# EAGLE library part Z80SIO (library zilog)
Z80 FAMILY DEVICE
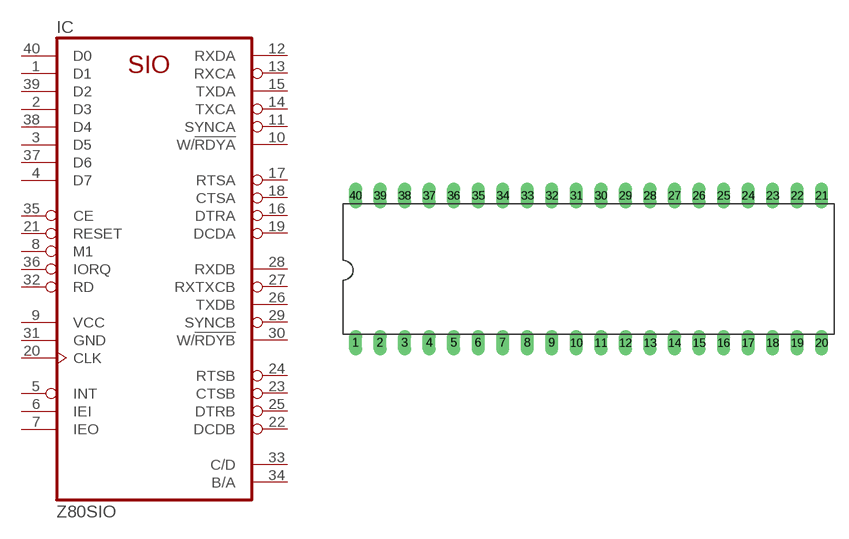
[diagram p3: symbol with the pads of DIL40; footprint DIL40]

Designator prefix IC

## Z80SIO  [DIL40]
1  D1
2  D3
3  D5
4  D7
5  INT  out
6  IEI  in
7  IEO  out
8  M1  in
9  VCC  pwr
10  W/!RDYA  out
11  SYNCA
12  RXDA  in
13  RXCA  in
14  TXCA  in
15  TXDA  in
16  DTRA  out
17  RTSA  out
18  CTSA  in
19  DCDA  in
20  CLK  in
21  RESET  in
22  DCDB  in
23  CTSB  in
24  RTSB  out
25  DTRB  out
26  TXDB  out
27  RXTXCB  in
28  RXDB  in
29  SYNCB
30  W/!RDYB  out
31  GND  pwr
32  RD  in
33  C/D  in
34  B/A  in
35  CE  in
36  IORQ  in
37  D6
38  D4
39  D2
40  D0

## Footprint DIL40 (pad centres in mm)
Dual In Line Package
drill 0.813 long: 1 -24.13,-7.62; 2 -21.59,-7.62; 3 -19.05,-7.62; 4 -16.51,-7.62; 5 -13.97,-7.62; 6 -11.43,-7.62; 7 -8.89,-7.62; 8 -6.35,-7.62; 9 -3.81,-7.62; 10 -1.27,-7.62; 11 1.27,-7.62; 12 3.81,-7.62; 13 6.35,-7.62; 14 8.89,-7.62; 15 11.43,-7.62; 16 13.97,-7.62; 17 16.51,-7.62; 18 19.05,-7.62; 19 21.59,-7.62; 20 24.13,-7.62; 21 24.13,7.62; 22 21.59,7.62; 23 19.05,7.62; 24 16.51,7.62; 25 13.97,7.62; 26 11.43,7.62; 27 8.89,7.62; 28 6.35,7.62; 29 3.81,7.62; 30 1.27,7.62; 31 -1.27,7.62; 32 -3.81,7.62; 33 -6.35,7.62; 34 -8.89,7.62; 35 -11.43,7.62; 36 -13.97,7.62; 37 -16.51,7.62; 38 -19.05,7.62; 39 -21.59,7.62; 40 -24.13,7.62